# Altium integrated library Integrated Circuits.IntLib: 13 symbols
Pins are listed as number, name and electrical type; pins without a type are passive.

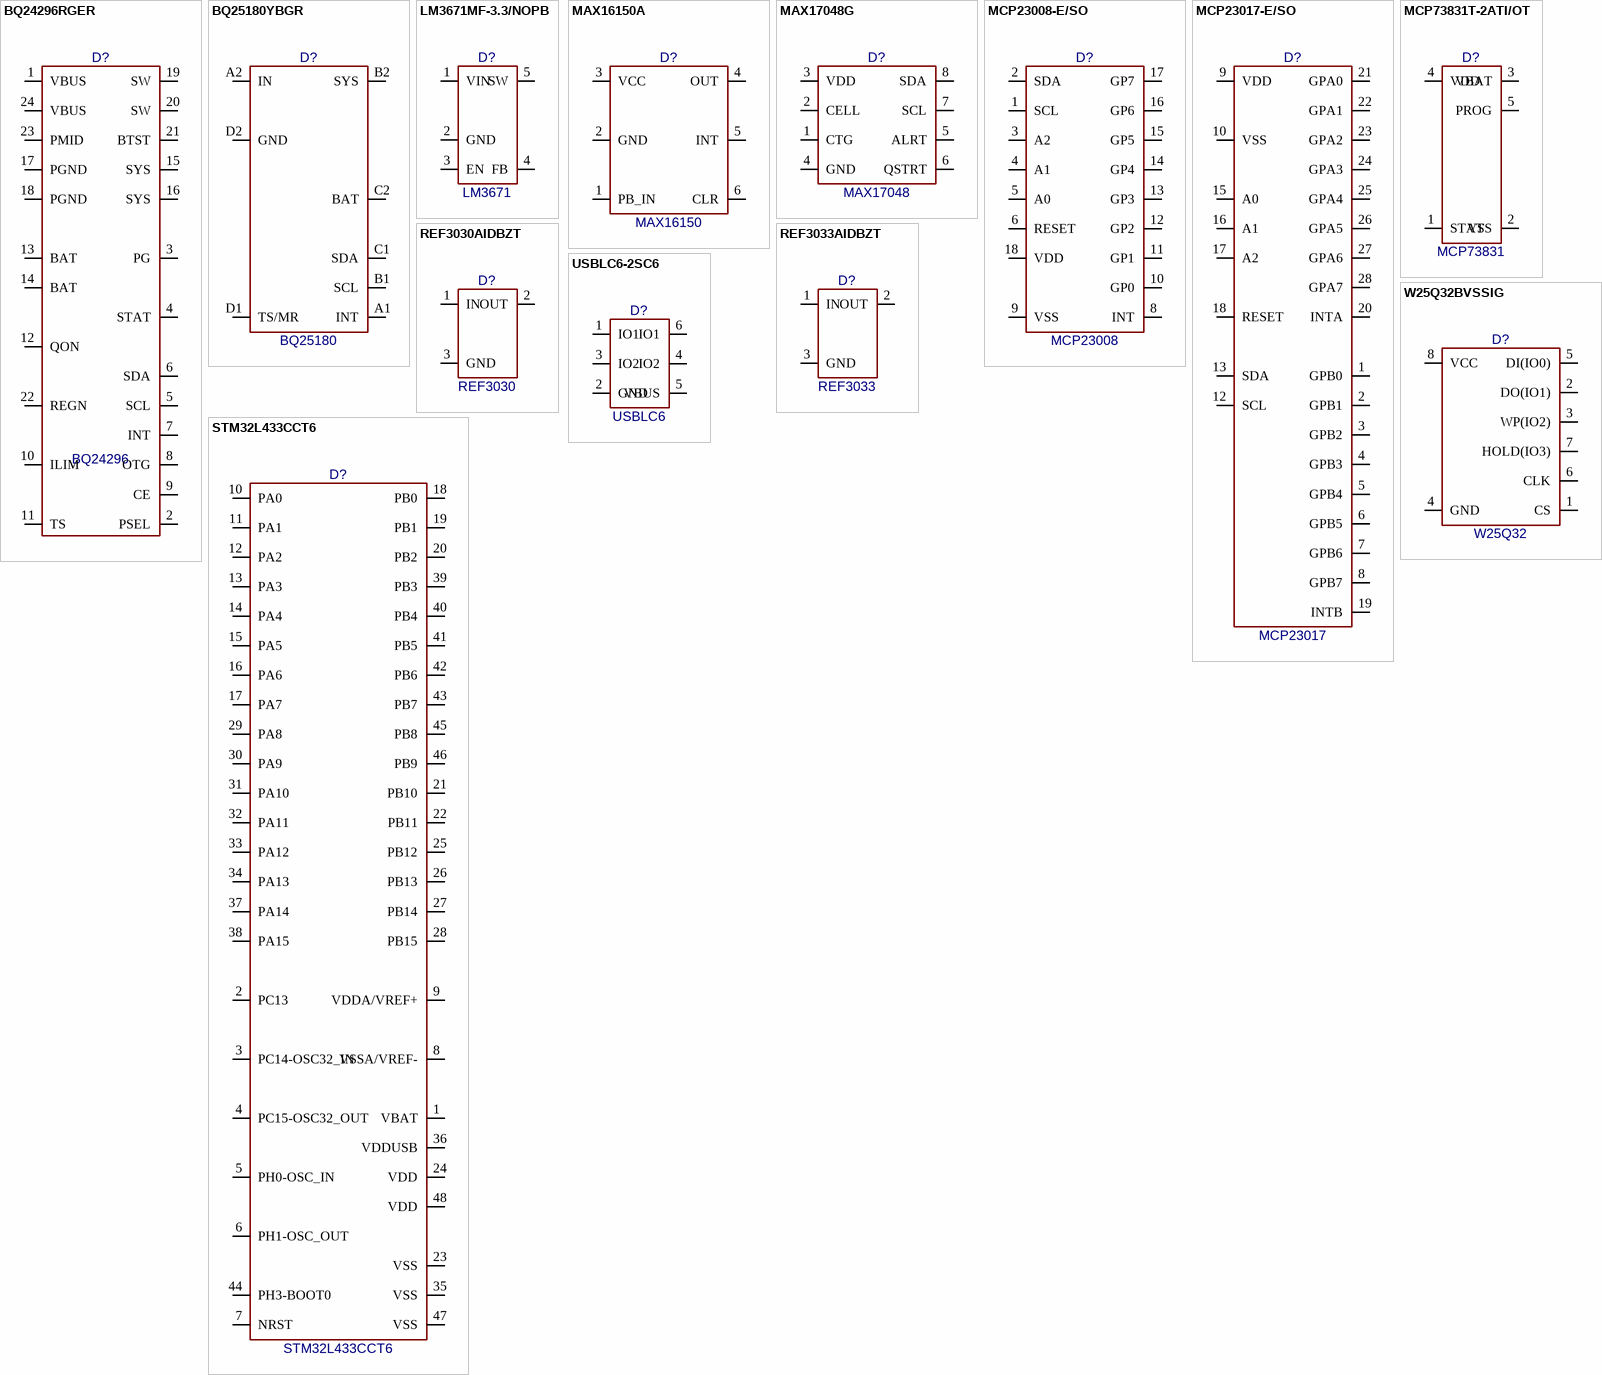
[diagram p0: symbols BQ24296RGER to W25Q32BVSSIG]

## BQ24296RGER
designator D?, comment BQ24296
I2C Controlled 3-A Single Cell USB Charger With Narrow VDC / Power Path Management and Adjustable Voltage USB OTG
footprint TI RGE0024H (QFN, 24-Leads, Body 4,00x4,00mm, Pitch 0,50mm, Thermal Pad 2,70x2,70mm, IPC Medium Density)
pins: 1 VBUS, 2 PSEL, 3 PG, 4 STAT, 5 SCL, 6 SDA, 7 INT, 8 OTG, 9 CE, 10 ILIM, 11 TS, 12 QON, 13 BAT, 14 BAT, 15 SYS, 16 SYS, 17 PGND, 18 PGND, 19 SW, 20 SW, 21 BTST, 22 REGN, 23 PMID, 24 VBUS

## BQ25180YBGR
designator D?, comment BQ25180
1-A Li-ion I²C programmable charger with regulated power path in WCSP package
footprint TI DSBGA (YBG0008) (BGA, 8-Leads, Body 1.00x1.55mmx0.50mm, Pitch 0.40mm)
pins: A1 INT, A2 IN, B1 SCL, B2 SYS, C1 SDA, C2 BAT, D1 TS/MR, D2 GND

## LM3671MF-3.3/NOPB
designator D?, comment LM3671
footprint TI DBV (R-PDSO-G5) (SOT23, 5-Leads, Body 2,90x2,80mm, Pitch 0,95mm, IPC Medium Density)
pins: 1 VIN, 2 GND, 3 EN, 4 FB, 5 SW

## MAX16150A
designator D?, comment MAX16150
footprint MAXIM WLP6 (21-0058) (BGA, 6-Leads, Body 1.24x0.83mmx0.69mm, Pitch 0.40mm)
pins: 1 PB_IN, 2 GND, 3 VCC, 4 OUT, 5 INT, 6 CLR

## MAX17048G
designator D?, comment MAX17048
footprint MAXIM 8 TDFN-EP (T822-3) (PSON, 8-Leads, Body 2.00x2.00mm, Pitch 0.50mm, Thermal Pad 1.20x0.80mm, IPC Medium Density)
pins: 1 CTG, 2 CELL, 3 VDD, 4 GND, 5 ALRT, 6 QSTRT, 7 SCL, 8 SDA

## MCP23008-E/SO
designator D?, comment MCP23008
footprint MICROCHIP C04-051 (SOIC, 18-Leads, Body 11,53x7,49mm, Pitch 1,27mm, IPC Medium Density)
pins: 1 SCL, 2 SDA, 3 A2, 4 A1, 5 A0, 6 RESET, 8 INT, 9 VSS, 10 GP0, 11 GP1, 12 GP2, 13 GP3, 14 GP4, 15 GP5, 16 GP6, 17 GP7, 18 VDD

## MCP23017-E/SO
designator D?, comment MCP23017
footprint MICRICHIP C04-52C (SOIC, 28-Leads, Body 17,90x7,50mm, Pitch 1,27mm, IPC Medium Density)
pins: 1 GPB0, 2 GPB1, 3 GPB2, 4 GPB3, 5 GPB4, 6 GPB5, 7 GPB6, 8 GPB7, 9 VDD, 10 VSS, 12 SCL, 13 SDA, 15 A0, 16 A1, 17 A2, 18 RESET, 19 INTB, 20 INTA, 21 GPA0, 22 GPA1, 23 GPA2, 24 GPA3, 25 GPA4, 26 GPA5, 27 GPA6, 28 GPA7

## MCP73831T-2ATI/OT
designator D?, comment MCP73831
footprint Microchip C04-091B (SOT23, 5-Leads, Body 2,90x2,70mm, Pitch 0,95mm, IPC Medium Density)
pins: 1 STAT, 2 VSS, 3 VBAT, 4 VDD, 5 PROG

## REF3030AIDBZT
designator D?, comment REF3030
footprint TI DBZ (R-PDSO-G3) (SOT23, 3-Leads, Body 2,92x2,37mm, Pitch 0,95mm, IPC Medium Density)
pins: 1 IN, 2 OUT, 3 GND

## REF3033AIDBZT
designator D?, comment REF3033
footprint TI DBZ (R-PDSO-G3) (SOT23, 3-Leads, Body 2,92x2,37mm, Pitch 0,95mm, IPC Medium Density)
pins: 1 IN, 2 OUT, 3 GND

## STM32L433CCT6
designator D?
footprint STM LQFP-48 (5B_ME_V2) (TSQFP, 48-Leads, Body 7,00x7,00mm, Pitch 0,50mm, IPC Medium Density)
pins: 1 VBAT, 2 PC13, 3 PC14-OSC32_IN, 4 PC15-OSC32_OUT, 5 PH0-OSC_IN, 6 PH1-OSC_OUT, 7 NRST, 8 VSSA/VREF-, 9 VDDA/VREF+, 10 PA0, 11 PA1, 12 PA2, 13 PA3, 14 PA4, 15 PA5, 16 PA6, 17 PA7, 18 PB0, 19 PB1, 20 PB2, 21 PB10, 22 PB11, 23 VSS, 24 VDD, 25 PB12, 26 PB13, 27 PB14, 28 PB15, 29 PA8, 30 PA9, 31 PA10, 32 PA11, 33 PA12, 34 PA13, 35 VSS, 36 VDDUSB, 37 PA14, 38 PA15, 39 PB3, 40 PB4, 41 PB5, 42 PB6, 43 PB7, 44 PH3-BOOT0, 45 PB8, 46 PB9, 47 VSS, 48 VDD

## USBLC6-2SC6
designator D?, comment USBLC6
footprint STM SOT23-6L (SOT23, 6-Leads, Body 2,93x2,80mm, Pitch 0,95mm, IPC Medium Density)
pins: 1 IO1, 2 GND, 3 IO2, 4 IO2, 5 VBUS, 6 IO1

## W25Q32BVSSIG
designator D?, comment W25Q32
footprint WINBOND ST 8-Pin VSOP 208-mil (SOIC, 8-Leads, Body 5,28x5,28mm, Pitch 1,27mm, IPC Medium Density)
pins: 1 CS, 2 DO(IO1), 3 WP(IO2), 4 GND, 5 DI(IO0), 6 CLK, 7 HOLD(IO3), 8 VCC